# EAGLE library part VS1000 (library CSEDIT-SparkFun-Old)
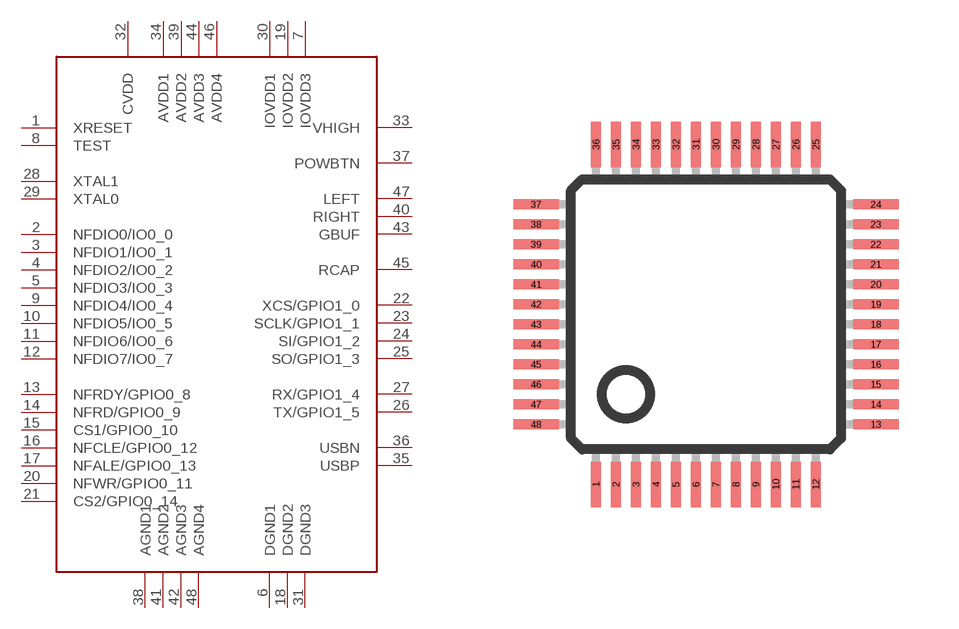
[diagram p144: symbol with the pads of LQFP-48; footprint LQFP-48]

Designator prefix -

## VS1000  [LQFP-48]
1  XRESET
2  NFDIO0/IO0_0
3  NFDIO1/IO0_1
4  NFDIO2/IO0_2
5  NFDIO3/IO0_3
6  DGND1
7  IOVDD3
8  TEST
9  NFDIO4/IO0_4
10  NFDIO5/IO0_5
11  NFDIO6/IO0_6
12  NFDIO7/IO0_7
13  NFRDY/GPIO0_8
14  NFRD/GPIO0_9
15  CS1/GPIO0_10
16  NFCLE/GPIO0_12
17  NFALE/GPIO0_13
18  DGND2
19  IOVDD2
20  NFWR/GPIO0_11
21  CS2/GPIO0_14
22  XCS/GPIO1_0
23  SCLK/GPIO1_1
24  SI/GPIO1_2
25  SO/GPIO1_3
26  TX/GPIO1_5
27  RX/GPIO1_4
28  XTAL1
29  XTAL0
30  IOVDD1
31  DGND3
32  CVDD
33  VHIGH
34  AVDD1
35  USBP
36  USBN
37  POWBTN
38  AGND1
39  AVDD2
40  RIGHT
41  AGND2
42  AGND3
43  GBUF
44  AVDD3
45  RCAP
46  AVDD4
47  LEFT
48  AGND4

## Footprint LQFP-48 (pad centres in mm)
smd 0.254 x 1.143: 1 -2.75,-4.25; 2 -2.25,-4.25; 3 -1.75,-4.25; 4 -1.25,-4.25; 5 -0.75,-4.25; 6 -0.25,-4.25; 7 0.25,-4.25; 8 0.75,-4.25; 9 1.25,-4.25; 10 1.75,-4.25; 11 2.25,-4.25; 12 2.75,-4.25; 25 2.75,4.25; 26 2.25,4.25; 27 1.75,4.25; 28 1.25,4.25; 29 0.75,4.25; 30 0.25,4.25; 31 -0.25,4.25; 32 -0.75,4.25; 33 -1.25,4.25; 34 -1.75,4.25; 35 -2.25,4.25; 36 -2.75,4.25
smd 1.143 x 0.254: 13 4.25,-2.75; 14 4.25,-2.25; 15 4.25,-1.75; 16 4.25,-1.25; 17 4.25,-0.75; 18 4.25,-0.25; 19 4.25,0.25; 20 4.25,0.75; 21 4.25,1.25; 22 4.25,1.75; 23 4.25,2.25; 24 4.25,2.75; 37 -4.25,2.75; 38 -4.25,2.25; 39 -4.25,1.75; 40 -4.25,1.25; 41 -4.25,0.75; 42 -4.25,0.25; 43 -4.25,-0.25; 44 -4.25,-0.75; 45 -4.25,-1.25; 46 -4.25,-1.75; 47 -4.25,-2.25; 48 -4.25,-2.75